# Altium schematic symbol library Encoder.SchLib: 1 symbol
Pins are listed as number, name and electrical type; pins without a type are passive.

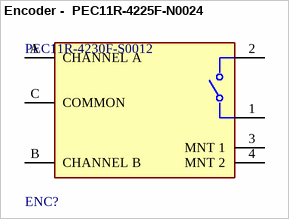
[diagram p0: symbol Encoder -  PEC11R-4225F-N0024]

## Encoder -  PEC11R-4225F-N0024
designator ENC?, comment PEC11R-4230F-S0012
ROTARY ENCODER MECHANICAL 12PPR; Detent: Yes; Hole Diameter: 1.8mm; Number of Channels: 2; Pulses per Revolution: 12; Output Type: Quadrature; Max Operating Temperature: 70°C; Packaging: Bulk; Encoder Type: Mechanical; Orientation: Vertical; REACH SVHC: No SVHC; Series: PEC11R; Height: 13.4mm; RoHS Compliant: Yes; Termination: PC Pin; Mount: Through Hole; Package Quantity: 75; Built in Switch: Yes; Length: 36.5mm; Width: 12.5mm; Min Operating Temperature: -30°C
footprint FP-PEC11R-4230F-S0012-MFG
pins: 1, 2, 3 MNT 1, 4 MNT 2, A CHANNEL A, B CHANNEL B, C COMMON